# EAGLE library part ISD2130 (library reprapltd)
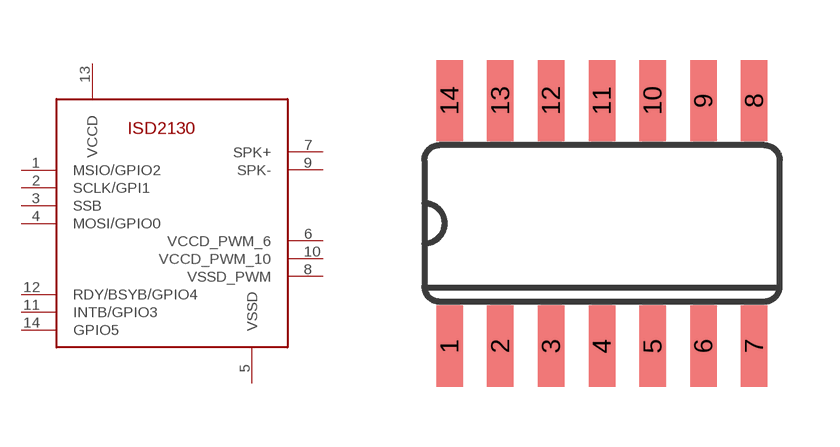
[diagram p4: symbol with the pads of ISD2130; footprint ISD2130]

Designator prefix -

## ISD2130  [ISD2130]
1  MSIO/GPIO2
2  SCLK/GPI1  in
3  SSB  in
4  MOSI/GPIO0
5  VSSD  pwr
6  VCCD_PWM_6  in
7  SPK+  out
8  VSSD_PWM  in
9  SPK-  out
10  VCCD_PWM_10  in
11  INTB/GPIO3
12  RDY/BSYB/GPIO4
13  VCCD  pwr
14  GPIO5

## Footprint ISD2130 (pad centres in mm)
smd 0.66 x 2.032: 1 -3.81,-3.073; 2 -2.54,-3.073; 3 -1.27,-3.073; 4 0,-3.073; 5 1.27,-3.073; 6 2.54,-3.073; 7 3.81,-3.073; 8 3.81,3.073; 9 2.54,3.073; 10 1.27,3.073; 11 0,3.073; 12 -1.27,3.073; 13 -2.54,3.073; 14 -3.81,3.073